# EAGLE library part SN74LVC1T45DCKR (library SN74LVC1T45DCKR)
Texas Instruments SN74LVC1T45DCKR, Bus Transceiver Non-Inverting LVTTL, 1.65 5.5 V, 6-Pin SC-70 Source: Datasheet <http://www.ti.com/lit/gpn/sn74lvc1t45>
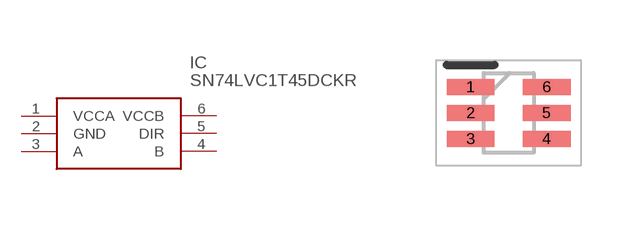
[diagram p0: symbol with the pads of SOT65P210X110-6N; footprint SOT65P210X110-6N]

Designator prefix IC

## SN74LVC1T45DCKR (Arrow_Part_Number: SN74LVC1T45DCKR; Arrow_Price-Stock: https://www.arrow.com/en/products/sn74lvc1t45dckr/texas-instruments?region=nac; Description: Texas Instruments SN74LVC1T45DCKR, Bus Transceiver Non-Inverting LVTTL, 1.65 5.5 V, 6-Pin SC-70; Height: 1.1mm; Manufacturer_Name: Texas Instruments; Manufacturer_Part_Number: SN74LVC1T45DCKR; Mouser_Part_Number: 595-SN74LVC1T45DCKR; Mouser_Price-Stock: https://www.mouser.co.uk/ProductDetail/Texas-Instruments/SN74LVC1T45DCKR?qs=gb35HGp1gQLgs5JLyVnp7g%3D%3D)  [SOT65P210X110-6N]
1  VCCA
2  GND
3  A
4  B
5  DIR
6  VCCB

## Footprint SOT65P210X110-6N (pad centres in mm)
DCK (R-PDSO-G6)
smd 1.2 x 0.4: 1 -0.95,0.65; 2 -0.95,0; 3 -0.95,-0.65; 4 0.95,-0.65; 5 0.95,0; 6 0.95,0.65